# Altium footprint library Conectors.PcbLib: 38 footprints (part 2 of 3)
Each footprint in its own frame and in the unit in brackets; x right, y up, seen from the top. Pads: shape width x height; smd on the part's side, far side on the other; paste and mask are expansions set on the pad; w line width, h text height; cw(c..) or ccw(c..) is an arc to the next point about the centre after c.
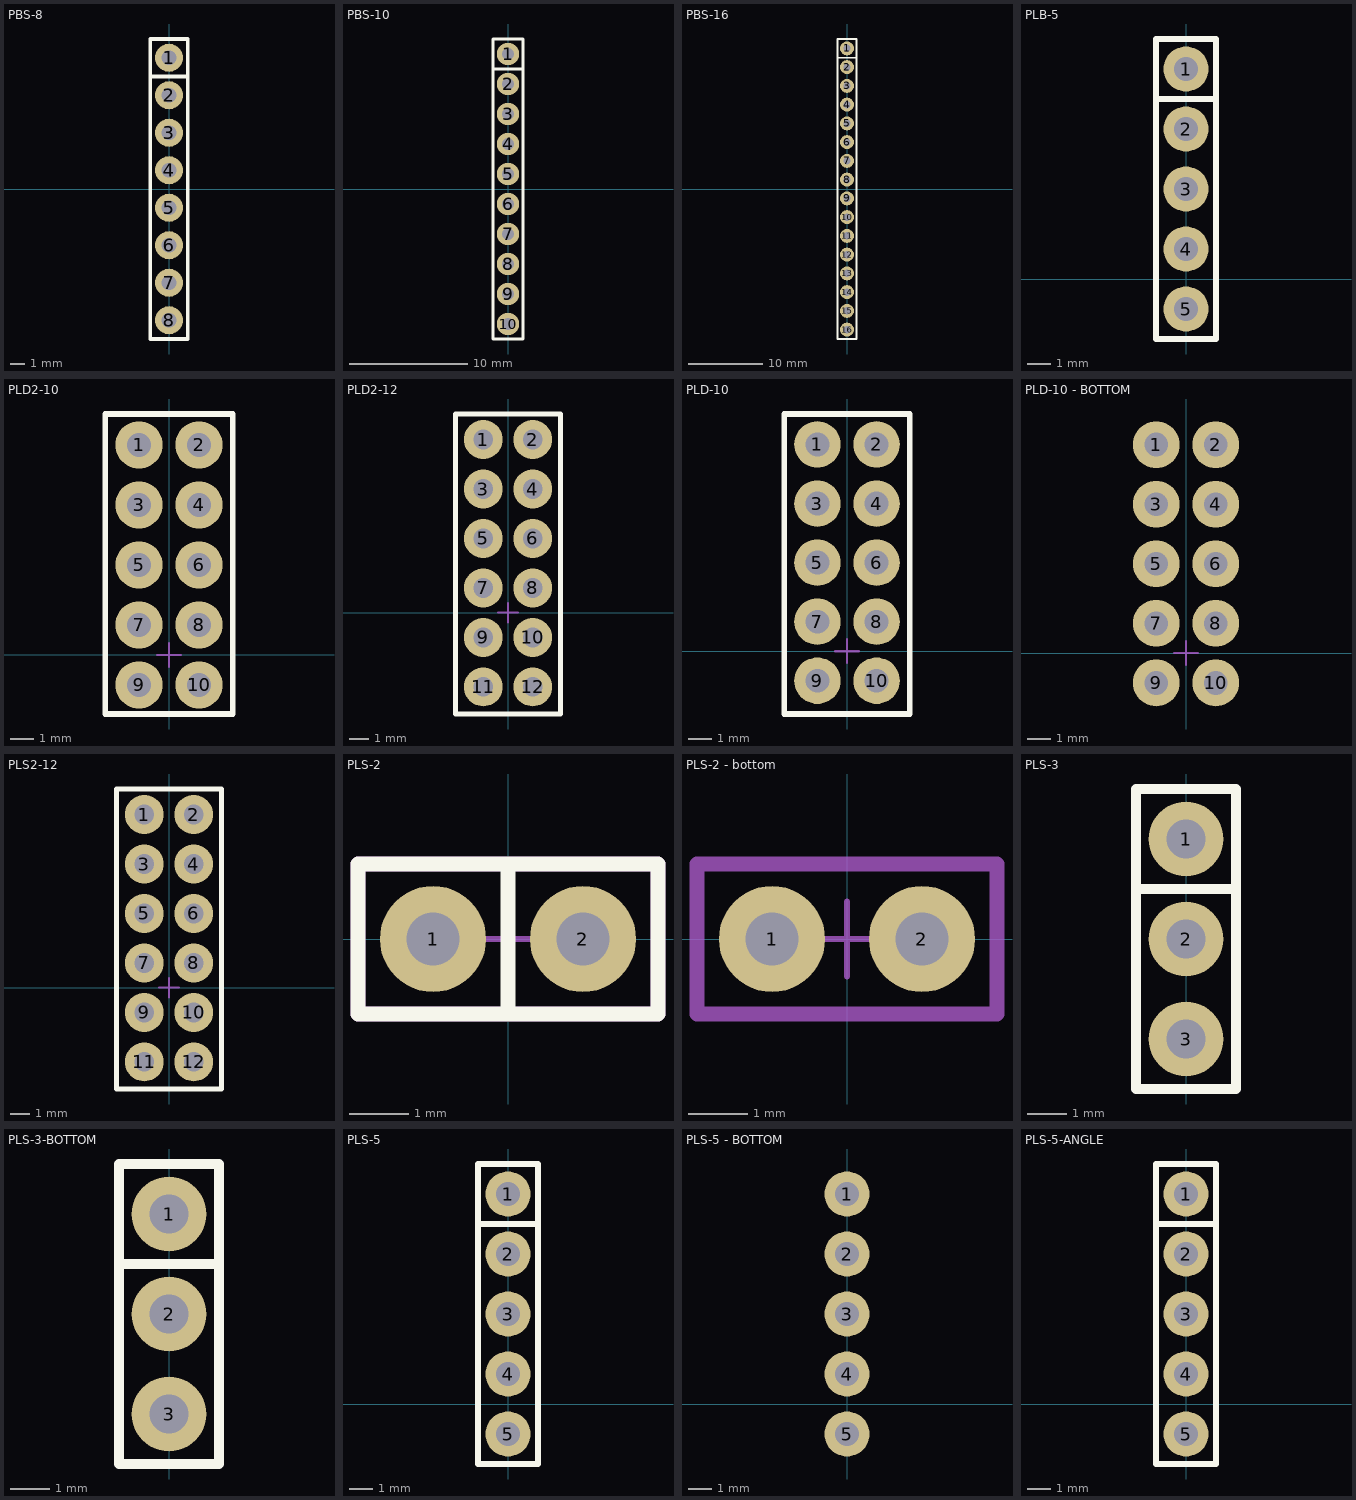
[diagram p1: the footprints below, top view; thin cyan lines are the x and y axes]

## PBS-8 [mm]
pads (8):
  round 1.9 hole 1: 1(0,8.89) 2(0,6.35) 3(0,3.81) 4(0,1.27) 5(0,-1.27) 6(0,-3.81) 7(0,-6.35) 8(0,-8.89)
Top Overlay:
  lines w0.25: -1.27,7.62 1.27,7.62 ; -1.27,-10.16 -1.27,10.16 1.27,10.16 1.27,-10.16 -1.27,-10.16
3D body "Connector-PBS-08.STEP": height 8.4, standoff -3.2, extent -1.27,-10.16 1.27,10.16

## PBS-10 [mm]
pads (10):
  round 1.9 hole 1: 1(0,11.43) 2(0,8.89) 3(0,6.35) 4(0,3.81) 5(0,1.27) 6(0,-1.27) 7(0,-3.81) 8(0,-6.35) 9(0,-8.89) 10(0,-11.43)
Top Overlay:
  lines w0.25: -1.27,10.16 1.27,10.16 ; -1.27,-12.7 1.27,-12.7 1.27,12.7 -1.27,12.7 -1.27,-12.7
3D body "Connector-PBS-10.STEP": height 8.4, standoff -3.2, extent -1.27,-12.7 1.27,12.7

## PBS-16 [mm]
pads (16):
  round 1.9 hole 1: 1(0,19.05) 2(0,16.51) 3(0,13.97) 4(0,11.43) 5(0,8.89) 6(0,6.35) 7(0,3.81) 8(0,1.27) 9(0,-1.27) 10(0,-3.81) 11(0,-6.35) 12(0,-8.89) 13(0,-11.43) 14(0,-13.97) 15(0,-16.51) 16(0,-19.05)
Top Overlay:
  lines w0.25: -1.27,17.78 1.27,17.78 ; -1.27,-20.32 -1.27,20.32 1.27,20.32 1.27,-20.32 -1.27,-20.32
3D body "Connector-PBS-16.STEP": height 8.27, standoff -2.73, extent -1.27,-20.32 1.27,20.32

## PLB-5 [mm]
pads (5):
  round 1.9 hole 1: 1(0,8.89) 2(0,6.35) 3(0,3.81) 4(0,1.27) 5(0,-1.27)
Top Overlay:
  lines w0.25: -1.27,7.62 1.27,7.62 ; -1.27,-2.54 1.27,-2.54 1.27,10.16 -1.27,10.16 -1.27,-2.54
3D body "DS1023-1x5SF11.stp": height 8.6, standoff -2.9, extent -1.27,-3 1.27,10.5

## PLD2-10 [mm]
pads (10):
  round 2 hole 1.02: 1(-1.27,8.89) 2(1.27,8.89) 3(-1.27,6.35) 4(1.27,6.35) 5(-1.27,3.81) 6(1.27,3.81) 7(-1.27,1.27) 8(1.27,1.27) 9(-1.27,-1.27) 10(1.27,-1.27)
Top Overlay:
  lines w0.25: -2.7,-2.5 -2.7,-1.43 -2.7,10.2 -2.265,10.2 2.7,10.2 2.7,-1.43 2.7,-2.5 -2.7,-2.5
Border:
  lines w0.1: -0.508,0 0.508,0 ; 0,-0.508 0,0.508
3D body "DS1022-2x5RF11.stp": height 7.16, standoff -5.88, extent -5.5,-2.55 2.5,10.15

## PLD2-12 [mm]
pads (12):
  round 2 hole 1.02: 1(-1.27,8.89) 2(1.27,8.89) 3(-1.27,6.35) 4(1.27,6.35) 5(-1.27,3.81) 6(1.27,3.81) 7(-1.27,1.27) 8(1.27,1.27) 9(-1.27,-1.27) 10(1.27,-1.27)
  round 2 hole 1: 11(-1.27,-3.81) 12(1.27,-3.81)
Top Overlay:
  lines w0.25: -2.7,-5.2 -2.7,-1.43 -2.7,10.2 -2.265,10.2 2.7,10.2 2.7,-1.43 2.7,-5.2 -2.7,-5.2
Border:
  lines w0.1: -0.508,0 0.508,0 ; 0,-0.508 0,0.508
3D body "DS1022-2x6RF11.stp": height 5, standoff -3, extent -1.69,-5.24 11.35,10

## PLD-10 [mm]
pads (10):
  round 2 hole 1.02: 1(-1.27,8.89) 2(1.27,8.89) 3(-1.27,6.35) 4(1.27,6.35) 5(-1.27,3.81) 6(1.27,3.81) 7(-1.27,1.27) 8(1.27,1.27) 9(-1.27,-1.27) 10(1.27,-1.27)
Top Overlay:
  lines w0.25: -2.7,-2.7 2.7,-2.7 2.7,-1.43 2.7,10.2 -2.265,10.2 -2.7,10.2 -2.7,-1.43 -2.7,-2.7
Border:
  lines w0.1: -0.508,0 0.508,0 ; 0,-0.508 0,0.508
3D body "Connector-PLD-10.STEP": height 8.6, standoff -2.5, extent -2.54,-2.54 2.54,10.16

## PLD-10 - BOTTOM [mm]
pads (10):
  round 2 hole 1.02: 1(-1.27,8.89) 2(1.27,8.89) 3(-1.27,6.35) 4(1.27,6.35) 5(-1.27,3.81) 6(1.27,3.81) 7(-1.27,1.27) 8(1.27,1.27) 9(-1.27,-1.27) 10(1.27,-1.27)
Bottom Overlay:
  lines w0.25: -2.54,-2.6 2.54,-2.6 2.54,-1.27 2.54,10.2 -2.54,10.2 -2.54,-1.27 -2.54,-2.6
Border:
  lines w0.1: -0.508,0 0.508,0 ; 0,-0.508 0,0.508
3D body: height 0.25, standoff 0, extent -4.826,7.874 -4.826,7.874
3D body: height 0.25, standoff 0, extent 3.302,8.382 3.302,8.382
3D body "Connector-PLD-10.STEP": height 0.9, standoff -10.2, extent -2.54,-2.54 2.54,10.16

## PLS2-12 [mm]
pads (12):
  round 2 hole 1.02: 1(-1.27,8.89) 2(1.27,8.89) 3(-1.27,6.35) 4(1.27,6.35) 5(-1.27,3.81) 6(1.27,3.81) 7(-1.27,1.27) 8(1.27,1.27) 9(-1.27,-1.27) 10(1.27,-1.27)
  round 2 hole 1: 11(-1.27,-3.81) 12(1.27,-3.81)
Top Overlay:
  lines w0.25: -2.7,-5.2 -2.7,-1.43 -2.7,10.2 -2.265,10.2 2.7,10.2 2.7,-1.43 2.7,-5.2 -2.7,-5.2
Border:
  lines w0.1: -0.508,0 0.508,0 ; 0,-0.508 0,0.508
3D body "DS1021-2x6SF11.stp": height 8.6, standoff -3, extent -2.6,-5.24 2.4,10

## PLS-2 [mm]
pads (2):
  round 1.8 hole 0.9: 1(-1.27,0) 2(1.27,0)
Top Overlay:
  lines w0.254: 0,-1.27 0,1.27 ; -2.54,-1.27 2.54,-1.27 2.54,1.27 -2.54,1.27 -2.54,-1.27
Top Assy:
  lines w0.254: -2.54,-1.27 2.54,-1.27 2.54,1.27 -2.54,1.27 -2.54,-1.27
Border:
  lines w0.1: -0.635,0 0.635,0 ; 0,-0.635 0,0.635 ; -2.54,-1.27 2.54,-1.27 2.54,1.27 -2.54,1.27 -2.54,-1.27
3D body "Connector-PLS-2.STEP": height 8.64, standoff -2.9, extent -2.54,-1.27 2.54,1.27

## PLS-2 - bottom [mm]
pads (2):
  round 1.8 hole 0.9: 1(-1.27,0) 2(1.27,0)
Bottom Overlay:
  lines w0.254: 0,-1.27 0,1.27 ; -2.54,-1.27 2.54,-1.27 2.54,1.27 -2.54,1.27 -2.54,-1.27
Top Assy:
  lines w0.254: -2.54,-1.27 2.54,-1.27 2.54,1.27 -2.54,1.27 -2.54,-1.27
Border:
  lines w0.1: -0.635,0 0.635,0 ; 0,-0.635 0,0.635 ; -2.54,-1.27 2.54,-1.27 2.54,1.27 -2.54,1.27 -2.54,-1.27
3D body "Connector-PLS-2.STEP": height 1.4, standoff -10.14, extent -2.54,-1.27 2.54,1.27

## PLS-3 [mm]
pads (3):
  round 1.9 hole 1: 1(0,8.89) 2(0,6.35) 3(0,3.81)
Top Overlay:
  lines w0.25: -1.27,7.62 1.27,7.62 ; -1.27,2.54 1.27,2.54 1.27,10.16 -1.27,10.16 -1.27,2.54
3D body "Connector-PLS-03.STEP": height 8.54, standoff -3, extent -1.27,2.54 1.27,10.16

## PLS-3-BOTTOM [mm]
pads (3):
  round 1.9 hole 1: 1(0,8.89) 2(0,6.35) 3(0,3.81)
Top Overlay:
  lines w0.25: -1.27,7.62 1.27,7.62 ; -1.27,2.54 -1.27,10.16 1.27,10.16 1.27,2.54 -1.27,2.54
3D body "Connector-PLS-03.STEP": height 0.5, standoff -11.04, extent -1.27,2.54 1.27,10.16

## PLS-5 [mm]
pads (5):
  round 1.9 hole 1: 1(0,8.89) 2(0,6.35) 3(0,3.81) 4(0,1.27) 5(0,-1.27)
Top Overlay:
  lines w0.25: -1.27,7.62 1.27,7.62 ; -1.27,-2.54 1.27,-2.54 1.27,10.16 -1.27,10.16 -1.27,-2.54
3D body "Connector-PLS-5.step": height 8.54, standoff -3, extent -1.27,-2.54 1.27,10.16

## PLS-5 - BOTTOM [mm]
pads (5):
  round 1.9 hole 1: 1(0,8.89) 2(0,6.35) 3(0,3.81) 4(0,1.27) 5(0,-1.27)
Bottom Overlay:
  lines w0.25: -1.27,7.62 1.27,7.62 ; -1.27,-2.54 -1.27,10.16 1.27,10.16 1.27,-2.54 -1.27,-2.54
3D body "Connector-PLS-5.step": height 0.9, standoff -10.64, extent -1.27,-2.54 1.27,10.16

## PLS-5-ANGLE [mm]
pads (5):
  round 1.9 hole 1: 1(0,8.89) 2(0,6.35) 3(0,3.81) 4(0,1.27) 5(0,-1.27)
Top Overlay:
  lines w0.25: -1.27,7.62 1.27,7.62 ; -1.27,-2.54 -1.27,10.16 1.27,10.16 1.27,-2.54 -1.27,-2.54
3D body "pls-5-angle.X_T": height 4.52, standoff -5.83, extent -4.23,-2.54 1.27,10.16